# Altium schematic symbol library Transistors.SchLib: 20 symbols
Pins are listed as number, name and electrical type; pins without a type are passive.

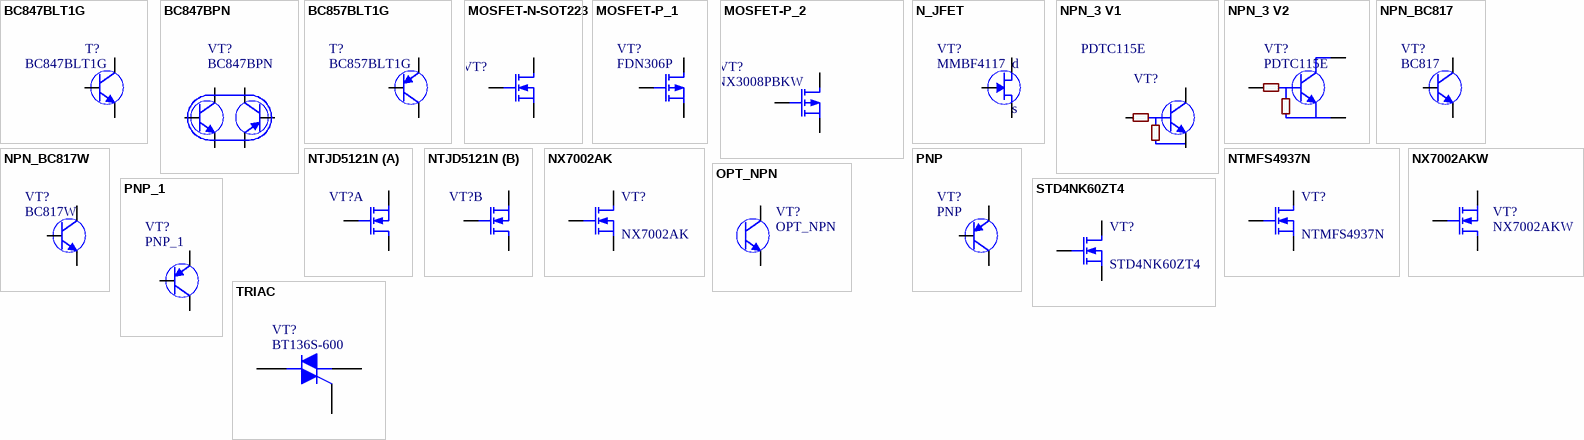
[diagram p0: symbols BC847BLT1G to TRIAC]

## BC847BLT1G
designator T?
Manufacturer: ON Semiconductor; Part Number: BC847BLT1G; Price 1: 0.127; Price 100: 0.066; Price 1000: 0.066
pins: 1 B, 2 E, 3 C

## BC847BPN
designator VT?
Catalog: Farnell; Catalog number: 1081233; Value: BC847BPN; Price: 0.047
footprint SOT363-6L (SOT363, 6-Leads, Body 2x1.3mm, Pitch 0.65mm, Lead Span 2.1mm, IPC High Density)
pins: 1 T1_E, 2 T1_B, 3 T2_C, 4 T2_E, 5 T2_B, 6 T1_C

## BC857BLT1G
designator T?
Manufacturer: ON Semiconductor; Part Number: BC857BLT1G; Price 1: 0.127; Price 100: 0.066; Price 1000: 0.028
pins: 1 E, 2 B, 3 C

## MOSFET-N-SOT223
designator VT?, comment N-channel MOSFET, SOT223  (value not drawn)
Catalog: Farnell; Catalog number: 2069551; Catalog page: *
footprint SOT223_N (Footprint not found)
pins: 1 G, 2 D, 3 S, 4 D

## MOSFET-P_1
designator VT?  value FDN306P  (hidden comment: MOSFET-P_1)
FDN306P; Catalog: *; Catalog name: *; Catalog page: *
footprint SOT23-3L (SOT23, 3-Leads, Body 2.9x1.3mm, Pitch 0.95mm, Lead Span 2.5mm, IPC High Density)
pins: 1 G, 2 S, 3 D

## MOSFET-P_2
designator VT?, comment NX3008PBKW
NXP - NX3008PBKW - MOSFET, P CH, 30V, 200MA, SOT323; Catalog: Farnell; Catalog number: 2069551; Catalog page: *; Value: NX3008PBKW
footprint SOT323-3AL (SOT323, 3-Leads, Body 2.0x1.3mm, Pitch 0.65mm, Lead Span 2.1mm, IPC High Density)
pins: 1 G, 2 S, 3 D

## N_JFET
designator VT?, comment MMBF4117
FAIRCHILD SEMICONDUCTOR - MMBF4117 - JFET,SWITCH,N CH,40V,SOT-23; Catalog: Farnell; Catalog number: 1838987; Catalog page: *; Value: MMBF4117
footprint SOT23-3L (SOT23, 3-Leads, Body 2.9x1.3mm, Pitch 0.95mm, Lead Span 2.5mm, IPC High Density)
pins: 1 D, 2 S, 3 G
text: d; s

## NPN_3 V1
designator VT?, comment PDTC115E
Catalog: *; Catalog name: *; Catalog page: *; Value: PDTC115E
footprint SOT416-3L (SOT416, 3-Leads, Body 1.6x0.8mm, Pitch 0.50mm, Lead Span 1.6mm, IPC High Density)
pins: 1 B, 2 E, 3 C

## NPN_3 V2
designator VT?, comment PDTC115E
Catalog: *; Catalog name: *; Catalog page: *; Value: PDTC115E
footprint SOT416-3L (SOT416, 3-Leads, Body 1.6x0.8mm, Pitch 0.50mm, Lead Span 1.6mm, IPC High Density)
pins: 1 B, 2 E, 3 C

## NPN_BC817
designator VT?, comment BC817
Catalog: *; Catalog name: *; Catalog page: *; Value: BC817
footprint SOT23-3L (SOT23, 3-Leads, Body 2.9x1.3mm, Pitch 0.95mm, Lead Span 2.5mm, IPC High Density)
pins: 1 B, 2 E, 3 C

## NPN_BC817W
designator VT?, comment BC817W
Catalog: Farnell; Catalog number: 2114873; Catalog page: http://lv.farnell.com/nxp/bc817w/transistor-npn-45v-sot-323/dp/2114873?Ntt=BC817W; Value: BC817W
footprint SOT323-3AL (SOT323, 3-Leads, Body 2.0x1.3mm, Pitch 0.65mm, Lead Span 2.1mm, IPC High Density)
pins: 1 B, 2 E, 3 C

## NTJD5121N
designator VT?  (value not drawn)
N-MOSFET DUAL, ON SEMICONDUCTOR - NTJD5121NT1G - MOSFET, DUAL N CH, 60V, 304MA, SOT-363-6; Catalog: Farnell; Catalog number: 2317611; Price: 0.049; Value: NTJD5121NT1G
footprint SOT363-6L (SOT363, 6-Leads, Body 2x1.3mm, Pitch 0.65mm, Lead Span 2.1mm, IPC High Density)
part A pins: 1 S1, 2 G1, 6 D1
part B pins: 3 D2, 4 S2, 5 G2

## NTMFS4937N
designator VT?
N-MOSFET 600V 4A; Catalog: Farnell; Catalog name: 2317605RL; Value: NTMFS4937NT1G; Catalog page: *
footprint SO-8 FL
pins: 1 S, 2 S hidden, 3 S hidden, 4 G, 5 D, 6 D hidden

## NX7002AK
designator VT?
N-MOSFET; Catalog: Farnell; Catalog name: 2191746; Catalog page: *; Value: NX7002AK
footprint SOT23-3L (SOT23, 3-Leads, Body 2.9x1.3mm, Pitch 0.95mm, Lead Span 2.5mm, IPC High Density)
pins: 1 G, 2 S, 3 D

## NX7002AKW
designator VT?
N-MOSFET, NXP - NX7002AKW - SINGLE, N-CH, 60V, 0.17A, SOT323; Catalog: Farnell; Catalog number: 2191748; Price: 0.026; Value: NX7002AKW
footprint SOT323-3AL (SOT323, 3-Leads, Body 2.0x1.3mm, Pitch 0.65mm, Lead Span 2.1mm, IPC High Density)
pins: 1 G, 2 S, 3 D

## OPT_NPN
designator VT?
NPN_2; Catalog: *; Catalog name: *; Catalog page: *; Value: *
pins: 1 C, 3 E

## PNP
designator VT?
ZXTP2039F; Catalog: *; Catalog name: *; Catalog page: *; Value: ZXTP2039F
footprint SOT23-3L (SOT23, 3-Leads, Body 2.9x1.3mm, Pitch 0.95mm, Lead Span 2.5mm, IPC High Density)
pins: 1 B, 2 E, 3 C

## PNP_1
designator VT?
Catalog: *; Catalog name: *; Catalog page: *; Value: *
footprint TO-92 2 (TO-92)
pins: 1 E, 2 B, 3 C

## STD4NK60ZT4
designator VT?
N-MOSFET 600V 4A; Catalog: Farnell; Catalog name: 1291961; Catalog page: *; Value: STD4NK60ZT4
footprint TO-252 DPAK
pins: 1 G, 3 S, 4 D

## TRIAC
designator VT?, comment BT136S-600
Silicon Bidirectional Triode Thyristor; Catalog: Farnell; Catalog number: 1757881; Value: BT136S-600; Price: 0.81 €
footprint TO-252 DPAK
pins: 1 T1, 3 G, 4 T2